# Altium schematic symbol library Schlib1_Inductor.SchLib: 1 symbol
Pins are listed as number, name and electrical type; pins without a type are passive.

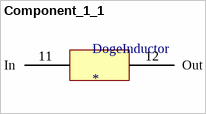
[diagram p0: symbol Component_1_1]

## Component_1_1
designator DogeInductor
Doge
footprint inductor
pins: 11 In, 12 Out